# EAGLE library part ENCODER_PLUS_SWITCH (library keeb-library)
Rotary Encoder with Built-In Switch PEC11 - 24 Step, PEC11-4215F-S24 - http://www.adafruit.com/products/377
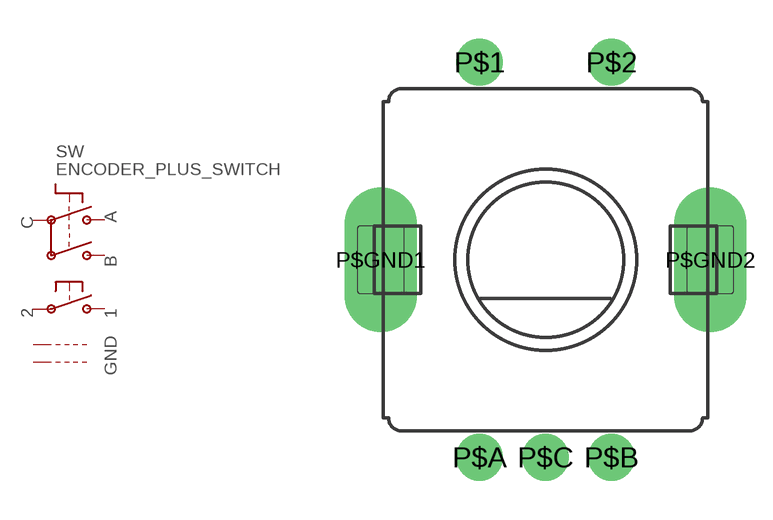
[diagram p1: symbol with the pads of PEC11+SWITCH; footprint PEC11+SWITCH]

Designator prefix SW

## ENCODER_PLUS_SWITCH_BOURNS_PEC11  [PEC11+SWITCH]
P$1  P$1  pas
P$2  P$2  pas
P$A  P$A  pas
P$B  P$B  pas
P$C  P$C  pas
P$GND1  P$GND1  pas
P$GND2  P$GND2  pas

## Footprint PEC11+SWITCH (pad centres in mm)
drill 1 pad 1.8: P$1 -2.54,7.62; P$2 2.54,7.62; P$A -2.54,-7.62; P$B 2.54,-7.62; P$C 0,-7.62
drill 1.8 pad 2.8 long: P$GND1 -6.35,0; P$GND2 6.35,0